# Altium footprint library TO-220-3_L10.2-W4.5-P2.54-L.PcbLib: 1 footprints
Each footprint in its own frame and in the unit in brackets; x right, y up, seen from the top. Pads: shape width x height; smd on the part's side, far side on the other; paste and mask are expansions set on the pad; w line width, h text height; cw(c..) or ccw(c..) is an arc to the next point about the centre after c.
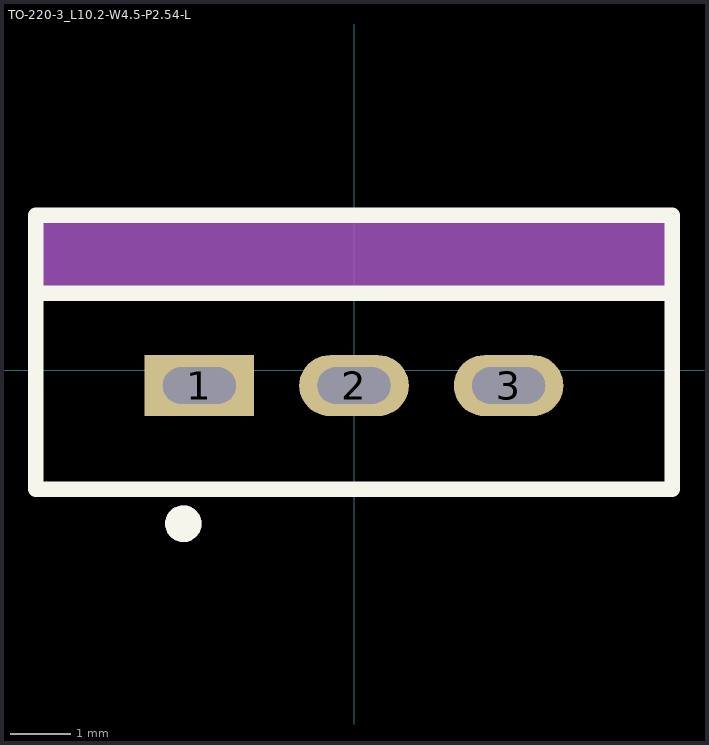
[diagram p0: the footprint, top view; thin cyan lines are the x and y axes]

## TO-220-3_L10.2-W4.5-P2.54-L [mm]
pads (3):
  rect 1.8x1 hole 0.6 slot 1.2 at 0 deg paste-2539.97 mask+0.051: 1(-2.54,-0.254)
  oval 1.8x1 hole 0.6 slot 1.2 at 0 deg paste-2539.97 mask+0.051: 2(0,-0.254) 3(2.54,-0.254)
Top Overlay:
  circle w0.3: c-2.804,-2.523 r0.15
  lines w0.254: -5.1,1.266 5.1,1.266 ; 5.222,2.546 -5.227,2.546 -5.227,-1.954 5.227,-1.954 5.227,2.546
Mechanical 15:
  circle w0.3: c-2.804,-2.523 r0.15
  region: 5.227,2.546 5.227,1.266 -5.227,1.266 -5.227,2.546